# Altium schematic symbol library PC814.SchLib: 1 symbol
Pins are listed as number, name and electrical type; pins without a type are passive.

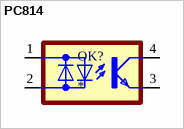
[diagram p0: symbol PC814]

## PC814
designator OK?
Optoacoplador com saÃ­da de transistor de 5000Vrms, 1 canal, 4 componentes SMD.; MF: Essentra Components; MP: PC814; SnapEDA_Link: https://www.snapeda.com/parts/PC814/Essentra/view-part/?ref=snap; Package: DIP-4 SHARP/Socle Technology; Value: *; Check_prices: https://www.snapeda.com/parts/PC814/Essentra/view-part/?ref=eda
footprint DIL04
pins: 1 AC1, 2 AC2, 3 E, 4 C